# EAGLE library part #EL84 (library E88CC)
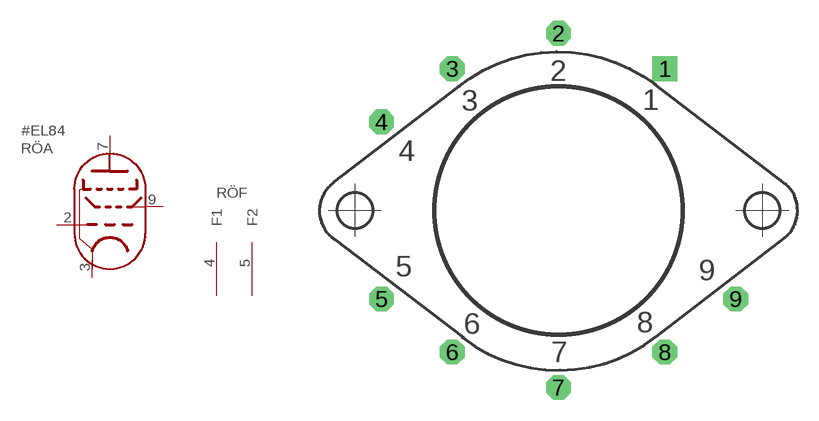
[diagram p10: symbol with the pads of NOVAL_G; footprint NOVAL_G]

Designator prefix RÖ; gates A=PENTODEA F=FADEN

## #EL84  [NOVAL_G]
2  A:G1  in
3  A:K_G3
4  F:F1  pwr
5  F:F2  pwr
7  A:A  out
9  A:G2  in

## Footprint NOVAL_G (pad centres in mm)
drill 1 pad 1.778 square: 1 7.62,10.16
drill 1 pad 1.778 octagon: 2 0,12.7; 3 -7.62,10.16; 4 -12.7,6.35; 5 -12.7,-6.35; 6 -7.62,-10.16; 7 0,-12.7; 8 7.62,-10.16; 9 12.7,-6.35